# EAGLE library part HIGHLY_PB6149L (library jason_eagle6)
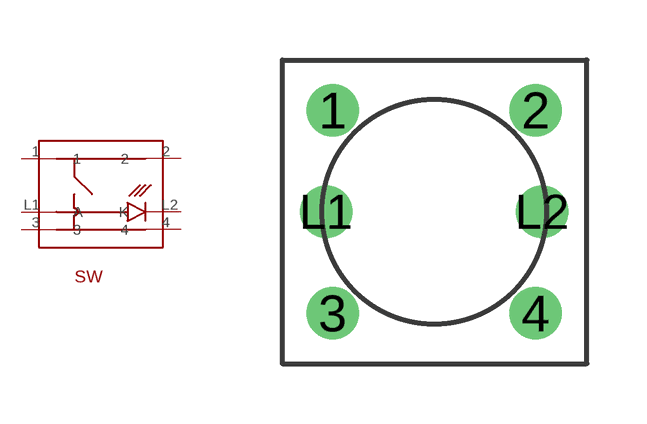
[diagram p47: symbol with the pads of HIGHLY_PB6149L; footprint HIGHLY_PB6149L]

Designator prefix SW

## HIGHLY_PB6149L  [HIGHLY_PB6149L]
1  1
2  2
3  3
4  4
L1  A
L2  K

## Footprint HIGHLY_PB6149L (pad centres in mm)
drill 0.8: 1 -2.54,2.54; 2 2.54,2.54; 3 -2.54,-2.54; 4 2.54,-2.54; L1 -2.7,0; L2 2.7,0